# EAGLE library part HEXABIT_17.32_TRIG_P1_P6 (library hexabitz_connectors)
Hexabitz Hexagon Module Connector Hexagon side length = 17.32mm.
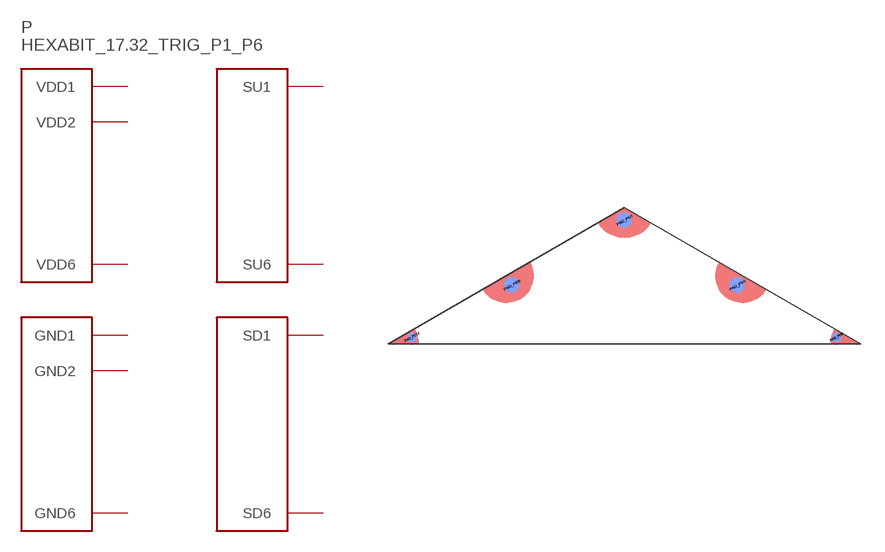
[diagram p1: symbol with the pads of HEXABIT_17.32_TRIG_P1_P6; footprint HEXABIT_17.32_TRIG_P1_P6]

Designator prefix P

## HEXABIT_17.32_TRIG_P1_P6  [HEXABIT_17.32_TRIG_P1_P6]
PAD_PD1  SD1
PAD_PD6  SD6
PAD_PD7  GND1  pwr
PAD_PD8  GND2  pwr
PAD_PD12  GND6  pwr
PAD_PU1  SU1
PAD_PU6  SU6
PAD_PU7  VDD1  pwr
PAD_PU8  VDD2  pwr
PAD_PU12  VDD6  pwr

## Footprint HEXABIT_17.32_TRIG_P1_P6 (pad centres in mm)
smd 1 x 1 rotated 30 bottom: PAD_PD1 7.164,3.727; PAD_PD6 -7.146,3.733; PAD_PD7 0.008,7.863
smd 0.61 x 0.61 rotated 30 bottom: PAD_PD8 13.484,0.417; PAD_PD12 -13.461,0.416
smd 1 x 1 rotated 30: PAD_PU1 7.164,3.727; PAD_PU6 -7.146,3.733; PAD_PU7 0.008,7.863
smd 0.61 x 0.61 rotated 30: PAD_PU8 13.475,0.401; PAD_PU12 -13.461,0.416